# Altium schematic symbol library GAPlib_CONNECTOR.SchLib: 25 symbols
Pins are listed as number, name and electrical type; pins without a type are passive.

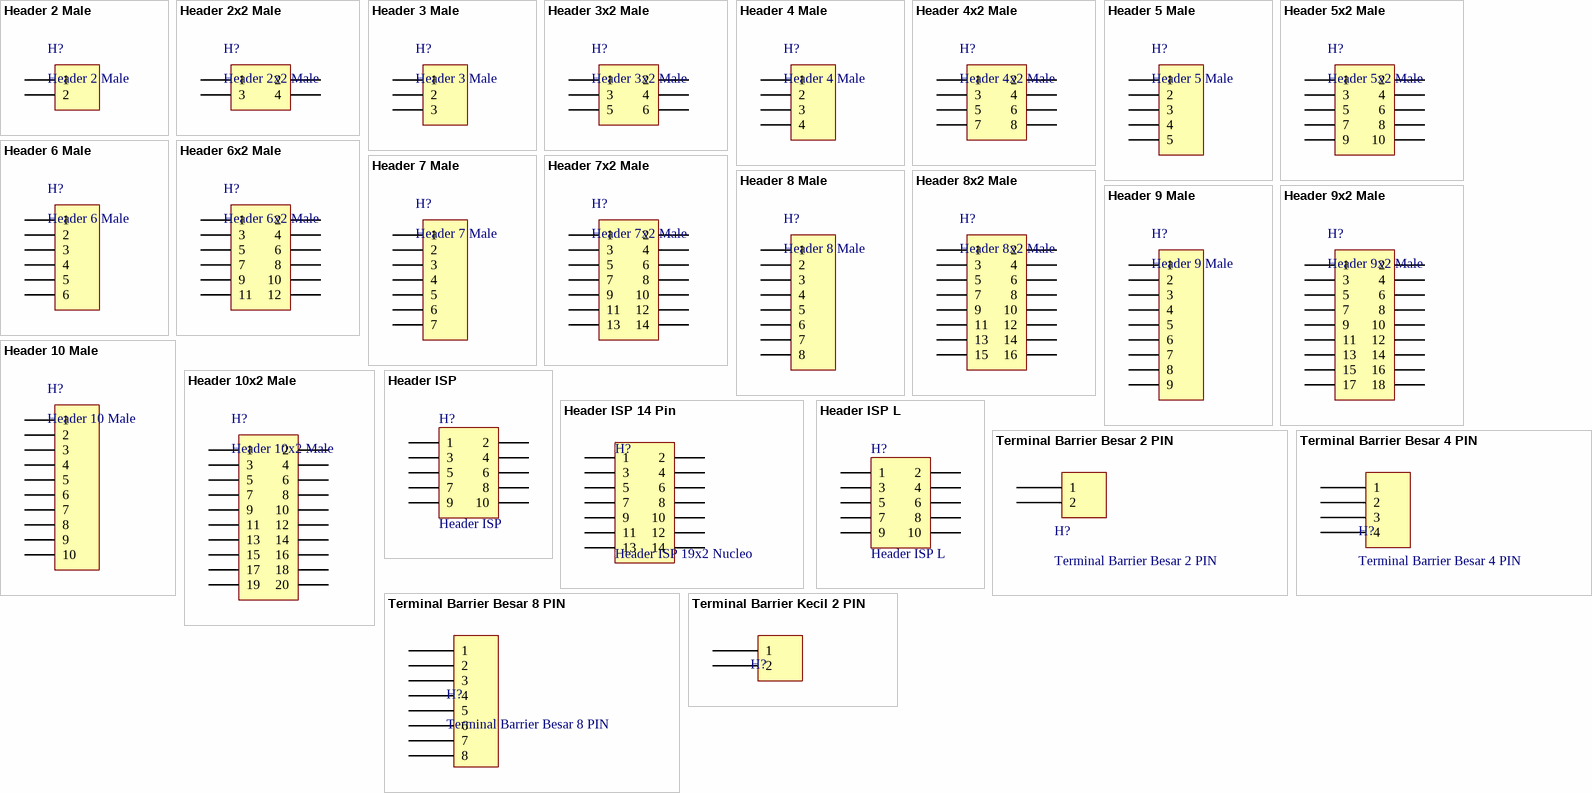
[diagram p0: symbols Header 2 Male to Terminal Barrier Kecil 2 PIN]

## Header 2 Male
designator H?
footprint Header 2 Male
pins: 1, 2

## Header 2x2 Male
designator H?
footprint Header 2x2 Male
pins: 1, 2, 3, 4

## Header 3 Male
designator H?
footprint Header 3 Male
pins: 1, 2, 3

## Header 3x2 Male
designator H?
footprint Header 3x2 Male
pins: 1, 2, 3, 4, 5, 6

## Header 4 Male
designator H?
footprint Header 4 Male
pins: 1, 2, 3, 4

## Header 4x2 Male
designator H?
footprint Header 4x2 Male
pins: 1, 2, 3, 4, 5, 6, 7, 8

## Header 5 Male
designator H?
footprint Header 5 Male
pins: 1, 2, 3, 4, 5

## Header 5x2 Male
designator H?
footprint Header 5x2 Male
pins: 1, 2, 3, 4, 5, 6, 7, 8, 9, 10

## Header 6 Male
designator H?
footprint Header 6 Male
pins: 1, 2, 3, 4, 5, 6

## Header 6x2 Male
designator H?
footprint Header 6x2 Male
pins: 1, 2, 3, 4, 5, 6, 7, 8, 9, 10, 11, 12

## Header 7 Male
designator H?
footprint Header 7 Male
pins: 1, 2, 3, 4, 5, 6, 7

## Header 7x2 Male
designator H?
footprint Header 7x2 Male
pins: 1, 2, 3, 4, 5, 6, 7, 8, 9, 10, 11, 12, 13, 14

## Header 8 Male
designator H?
footprint Header 8 Male
pins: 1, 2, 3, 4, 5, 6, 7, 8

## Header 8x2 Male
designator H?
footprint Header 8x2 Male
pins: 1, 2, 3, 4, 5, 6, 7, 8, 9, 10, 11, 12, 13, 14, 15, 16

## Header 9 Male
designator H?
footprint Header 9 Male
pins: 1, 2, 3, 4, 5, 6, 7, 8, 9

## Header 9x2 Male
designator H?
footprint Header 9x2 Male
pins: 1, 2, 3, 4, 5, 6, 7, 8, 9, 10, 11, 12, 13, 14, 15, 16, 17, 18

## Header 10 Male
designator H?
footprint Header 10 Male
pins: 1, 2, 3, 4, 5, 6, 7, 8, 9, 10

## Header 10x2 Male
designator H?
footprint Header 10x2 Male
pins: 1, 2, 3, 4, 5, 6, 7, 8, 9, 10, 11, 12, 13, 14, 15, 16, 17, 18, 19, 20

## Header ISP
designator H?
footprint Header ISP
pins: 1, 2, 3, 4, 5, 6, 7, 8, 9, 10

## Header ISP 14 Pin
designator H?, comment Header ISP 19x2 Nucleo
footprint Header ISP 14 Pin
pins: 1, 2, 3, 4, 5, 6, 7, 8, 9, 10, 11, 12, 13, 14

## Header ISP L
designator H?
footprint Header ISP L
pins: 1, 2, 3, 4, 5, 6, 7, 8, 9, 10

## Terminal Barrier Besar 2 PIN
designator H?
Tanpa Kuping
footprint Terminal Barrier Besar 2 PIN (Tanpa Kuping)
pins: 1, 2

## Terminal Barrier Besar 4 PIN
designator H?
Tanpa Kuping
footprint Terminal Barrier Besar 4 PIN (Tanpa Kuping)
pins: 1, 2, 3, 4

## Terminal Barrier Besar 8 PIN
designator H?
Tanpa Kuping
footprint Terminal Barrier Besar 8 PIN (Tanpa Kuping)
pins: 1, 2, 3, 4, 5, 6, 7, 8

## Terminal Barrier Kecil 2 PIN
designator H?  (value not drawn)
Tanpa Kuping
footprint Terminal Barrier Kecil 2 PIN (Tanpa Kuping)
pins: 1, 2